# EAGLE library part ATSAME51G18A-MU (library graftel-internal-ic)
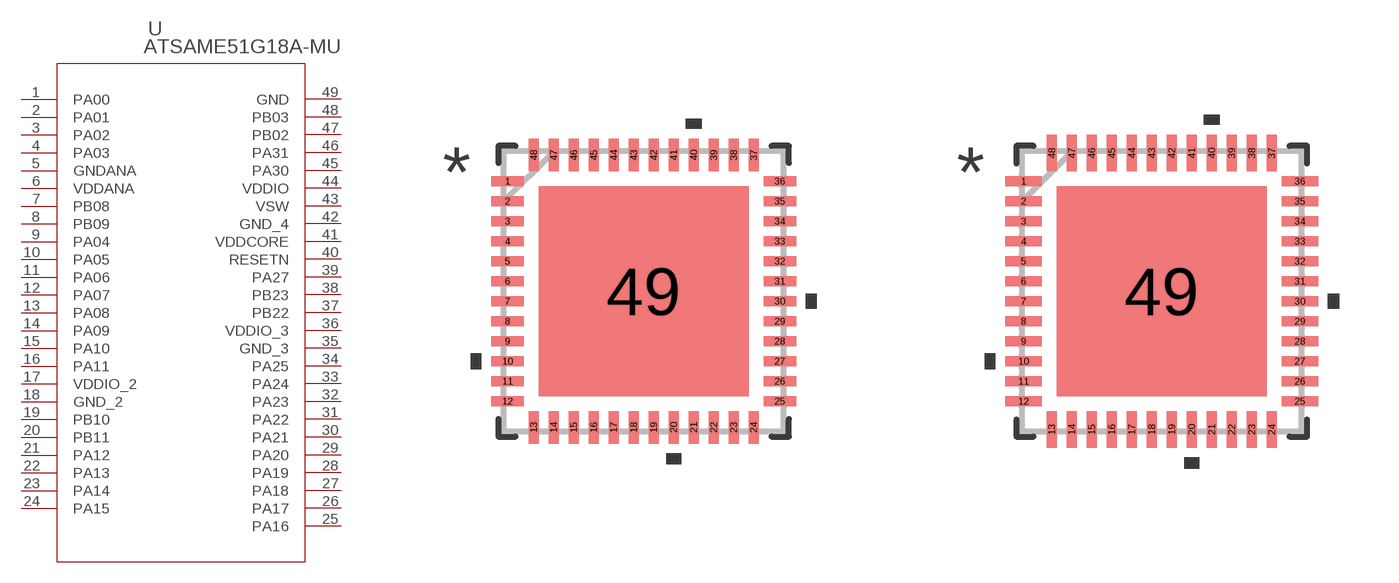
[diagram p85: symbol with the pads of VQFN48_MCH; footprints VQFN48_MCH, VQFN48_MCH-M]

Designator prefix U

## ATSAME51G18A-MU (BUILT_BY: EMA_Cory; COPYRIGHT: Copyright (C) 2018 Accelerated Designs. All rights reserved; DATASHEET: http://ww1.microchip.com/downloads/en/DeviceDoc/60001507E.pdf; MANUFACTURER_PART_NUMBER: ATSAME51G18A-MU; SOURCELIBRARY: Microchip_2020-04-13; VENDOR: Microchip)  [VQFN48_MCH]
1  PA00
2  PA01
3  PA02
4  PA03
5  GNDANA  pas
6  VDDANA  pwr
7  PB08
8  PB09
9  PA04
10  PA05
11  PA06
12  PA07
13  PA08
14  PA09
15  PA10
16  PA11
17  VDDIO_2  pwr
18  GND_2  pas
19  PB10
20  PB11
21  PA12
22  PA13
23  PA14
24  PA15
25  PA16
26  PA17
27  PA18
28  PA19
29  PA20
30  PA21
31  PA22
32  PA23
33  PA24
34  PA25
35  GND_3  pas
36  VDDIO_3  pwr
37  PB22
38  PB23
39  PA27
40  RESETN  in
41  VDDCORE  pwr
42  GND_4  pas
43  VSW  pas
44  VDDIO  pwr
45  PA30
46  PA31
47  PB02
48  PB03
49  GND  pas

## ATSAME51G18A-MUVQFN48_MCH-M (BUILT_BY: EMA_Cory; COPYRIGHT: Copyright (C) 2018 Accelerated Designs. All rights reserved; DATASHEET: http://ww1.microchip.com/downloads/en/DeviceDoc/60001507E.pdf; MANUFACTURER_PART_NUMBER: ATSAME51G18A-MU; SOURCELIBRARY: Microchip_2020-04-13; VENDOR: Microchip)  [VQFN48_MCH-M]
Pads as for VQFN48_MCH

## ATSAME51G18A-MUVQFN48_MCH-L (BUILT_BY: EMA_Cory; COPYRIGHT: Copyright (C) 2018 Accelerated Designs. All rights reserved; DATASHEET: http://ww1.microchip.com/downloads/en/DeviceDoc/60001507E.pdf; MANUFACTURER_PART_NUMBER: ATSAME51G18A-MU; SOURCELIBRARY: Microchip_2020-04-13; VENDOR: Microchip)  [VQFN48_MCH-L]
Pads as for VQFN48_MCH

## Footprint VQFN48_MCH (pad centres in mm)
smd 0.813 x 0.254: 1 -3.404,2.75; 2 -3.404,2.25; 3 -3.404,1.75; 4 -3.404,1.25; 5 -3.404,0.75; 6 -3.404,0.25; 7 -3.404,-0.25; 8 -3.404,-0.75; 9 -3.404,-1.25; 10 -3.404,-1.75; 11 -3.404,-2.25; 12 -3.404,-2.75; 25 3.404,-2.75; 26 3.404,-2.25; 27 3.404,-1.75; 28 3.404,-1.25; 29 3.404,-0.75; 30 3.404,-0.25; 31 3.404,0.25; 32 3.404,0.75; 33 3.404,1.25; 34 3.404,1.75; 35 3.404,2.25; 36 3.404,2.75
smd 0.254 x 0.813: 13 -2.75,-3.404; 14 -2.25,-3.404; 15 -1.75,-3.404; 16 -1.25,-3.404; 17 -0.75,-3.404; 18 -0.25,-3.404; 19 0.25,-3.404; 20 0.75,-3.404; 21 1.25,-3.404; 22 1.75,-3.404; 23 2.25,-3.404; 24 2.75,-3.404; 37 2.75,3.404; 38 2.25,3.404; 39 1.75,3.404; 40 1.25,3.404; 41 0.75,3.404; 42 0.25,3.404; 43 -0.25,3.404; 44 -0.75,3.404; 45 -1.25,3.404; 46 -1.75,3.404; 47 -2.25,3.404; 48 -2.75,3.404
smd 5.258 x 5.258: 49 0,0

## Footprint VQFN48_MCH-M (pad centres in mm)
smd 0.914 x 0.254: 1 -3.454,2.75; 2 -3.454,2.25; 3 -3.454,1.75; 4 -3.454,1.25; 5 -3.454,0.75; 6 -3.454,0.25; 7 -3.454,-0.25; 8 -3.454,-0.75; 9 -3.454,-1.25; 10 -3.454,-1.75; 11 -3.454,-2.25; 12 -3.454,-2.75; 25 3.454,-2.75; 26 3.454,-2.25; 27 3.454,-1.75; 28 3.454,-1.25; 29 3.454,-0.75; 30 3.454,-0.25; 31 3.454,0.25; 32 3.454,0.75; 33 3.454,1.25; 34 3.454,1.75; 35 3.454,2.25; 36 3.454,2.75
smd 0.254 x 0.914: 13 -2.75,-3.454; 14 -2.25,-3.454; 15 -1.75,-3.454; 16 -1.25,-3.454; 17 -0.75,-3.454; 18 -0.25,-3.454; 19 0.25,-3.454; 20 0.75,-3.454; 21 1.25,-3.454; 22 1.75,-3.454; 23 2.25,-3.454; 24 2.75,-3.454; 37 2.75,3.454; 38 2.25,3.454; 39 1.75,3.454; 40 1.25,3.454; 41 0.75,3.454; 42 0.25,3.454; 43 -0.25,3.454; 44 -0.75,3.454; 45 -1.25,3.454; 46 -1.75,3.454; 47 -2.25,3.454; 48 -2.75,3.454
smd 5.258 x 5.258: 49 0,0

## Footprint VQFN48_MCH-L (pad centres in mm)
smd 0.711 x 0.254: 1 -3.353,2.75; 2 -3.353,2.25; 3 -3.353,1.75; 4 -3.353,1.25; 5 -3.353,0.75; 6 -3.353,0.25; 7 -3.353,-0.25; 8 -3.353,-0.75; 9 -3.353,-1.25; 10 -3.353,-1.75; 11 -3.353,-2.25; 12 -3.353,-2.75; 25 3.353,-2.75; 26 3.353,-2.25; 27 3.353,-1.75; 28 3.353,-1.25; 29 3.353,-0.75; 30 3.353,-0.25; 31 3.353,0.25; 32 3.353,0.75; 33 3.353,1.25; 34 3.353,1.75; 35 3.353,2.25; 36 3.353,2.75
smd 0.254 x 0.711: 13 -2.75,-3.353; 14 -2.25,-3.353; 15 -1.75,-3.353; 16 -1.25,-3.353; 17 -0.75,-3.353; 18 -0.25,-3.353; 19 0.25,-3.353; 20 0.75,-3.353; 21 1.25,-3.353; 22 1.75,-3.353; 23 2.25,-3.353; 24 2.75,-3.353; 37 2.75,3.353; 38 2.25,3.353; 39 1.75,3.353; 40 1.25,3.353; 41 0.75,3.353; 42 0.25,3.353; 43 -0.25,3.353; 44 -0.75,3.353; 45 -1.25,3.353; 46 -1.75,3.353; 47 -2.25,3.353; 48 -2.75,3.353
smd 5.258 x 5.258: 49 0,0